# Altium footprint library SO-28.PcbLib: 1 footprints
Each footprint in its own frame and in the unit in brackets; x right, y up, seen from the top. Pads: shape width x height; smd on the part's side, far side on the other; paste and mask are expansions set on the pad; w line width, h text height; cw(c..) or ccw(c..) is an arc to the next point about the centre after c.
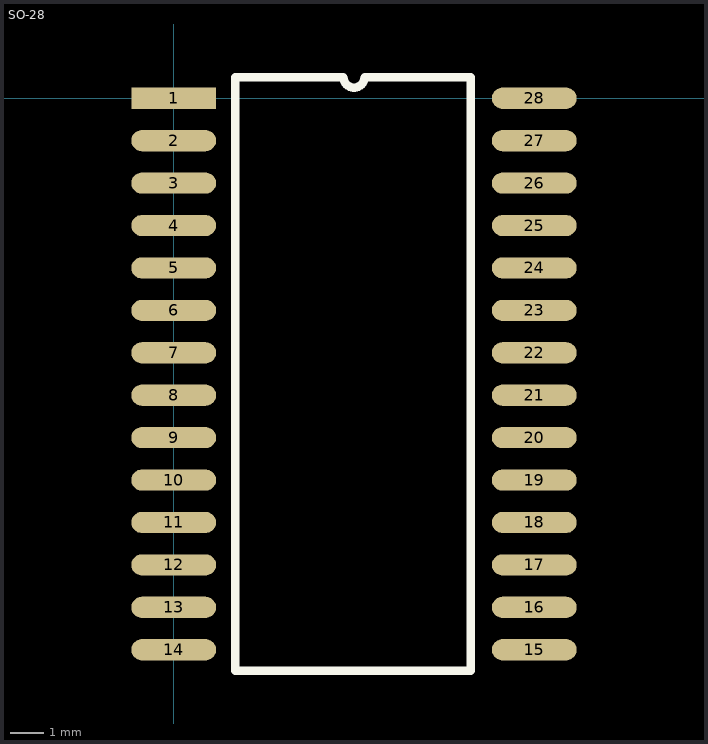
[diagram p0: the footprint, top view; thin cyan lines are the x and y axes]

## SO-28 [mil]
height 50
pads (28):
  rect 100x25 smd: 1(0,0)
  oval 100x25 smd: 2(0,-50) 3(0,-100) 4(0,-150) 5(0,-200) 6(0,-250) 7(0,-300) 8(0,-350) 9(0,-400) 10(0,-450) 11(0,-500) 12(0,-550) 13(0,-600) 14(0,-650) 15(425,-650) 16(425,-600) 17(425,-550) 18(425,-500) 19(425,-450) 20(425,-400) 21(425,-350) 22(425,-300) 23(425,-250) 24(425,-200) 25(425,-150) 26(425,-100) 27(425,-50) 28(425,0)
Top Overlay:
  lines w10: 72.5,-675 350,-675 350,25 225,25 cw(c212.5,25) 200,25 72.5,25 72.5,-675